# Altium footprint library PCB - CONNECTOR - MOLEX - MOLEX 395021006.PcbLib: 1 footprints
Each footprint in its own frame and in the unit in brackets; x right, y up, seen from the top. Pads: shape width x height; smd on the part's side, far side on the other; paste and mask are expansions set on the pad; w line width, h text height; cw(c..) or ccw(c..) is an arc to the next point about the centre after c.
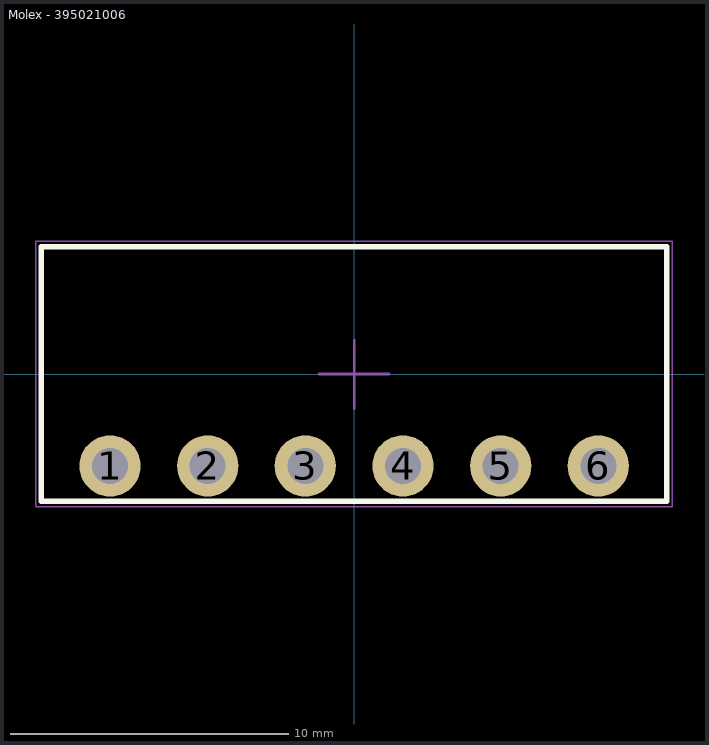
[diagram p0: the footprint, top view; thin cyan lines are the x and y axes]

## Molex - 395021006 [mil] "6 Position Terminal Block Header, Male Pins, 3.5mm Pitch,22.45mmx9.2mm Body, 90°, Right Angle, THT"
height 287.4
pads (6):
  round 86.61 hole 51: 1(-345,-130) 2(-207,-130) 3(-69,-130) 4(69,-130) 5(207,-130) 6(345,-130)
Top Overlay:
  lines w7.87: -442,-180 -442,180 442,180 442,-180 -442,-180
Mechanical 13:
  lines w3.94: -442,-180 442,-180 442,180 -442,180 -442,-180
Mechanical 15 (Mech15):
  lines w1.97: -449.88,-187.87 -449.88,187.87 449.39,187.87 449.39,-187.87 -449.88,-187.87
  lines w3.94: -49.21,0 0,0 ; 0,-49.21 0,0 ; 0,47.24 0,0 ; 49.21,0 0,0
3D body "Molex - 395021006 v1.step": height 280, standoff -140, extent -442,-180 442,180